# Altium footprint library nRF24L01+.PcbLib: 1 footprints
Each footprint in its own frame and in the unit in brackets; x right, y up, seen from the top. Pads: shape width x height; smd on the part's side, far side on the other; paste and mask are expansions set on the pad; w line width, h text height; cw(c..) or ccw(c..) is an arc to the next point about the centre after c.
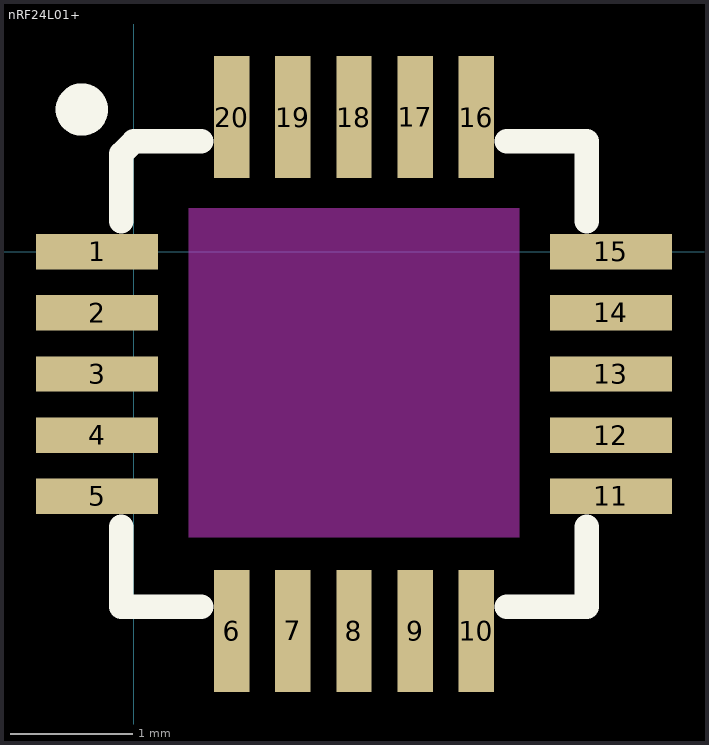
[diagram p0: the footprint, top view; thin cyan lines are the x and y axes]

## nRF24L01+ [mm]
pads (20):
  rect 1x0.29 smd: 1(-0.3,0) 2(-0.3,-0.5) 3(-0.3,-1) 4(-0.3,-1.5) 5(-0.3,-2) 11(3.9,-2) 12(3.9,-1.5) 13(3.9,-1) 14(3.9,-0.5) 15(3.9,0)
  rect 0.29x1 smd: 6(0.8,-3.1) 7(1.3,-3.1) 8(1.8,-3.1) 9(2.3,-3.1) 10(2.8,-3.1) 16(2.8,1.1) 17(2.3,1.1) 18(1.8,1.1) 19(1.3,1.1) 20(0.8,1.1)
Top Overlay:
  circle w0.3: c-0.424,1.161 r0.064
  lines w0.2: -0.1,-2.25 -0.1,-2.9 0.55,-2.9 ; -0.1,0.25 -0.1,0.8 0,0.9 0.55,0.9 ; 3.05,-2.9 3.7,-2.9 3.7,-2.25 ; 3.05,0.9 3.7,0.9 3.7,0.25
Keep-Out Layer:
  rectangle: 0.447,-2.334 3.152,0.357